# Altium schematic symbol library 27 RESISTORS_THD_AX14_8mm_S.SchLib: 9 symbols
Pins are listed as number, name and electrical type; pins without a type are passive.

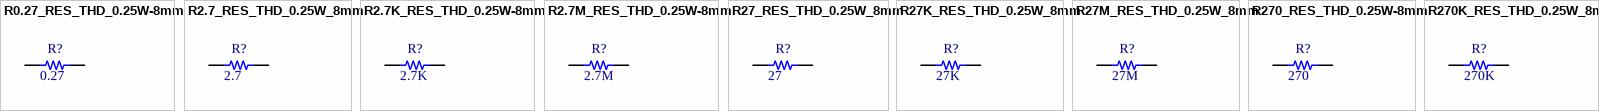
[diagram p0: symbols R0.27_RES_THD_0.25W-8mm to R270K_RES_THD_0.25W_8mm]

## R0.27_RES_THD_0.25W-8mm
designator R?  value 0.27  (hidden comment: *)
RESISTOR_0.27Ohm_THD_0.25W-8mm; Pacakge: THT; Rating: 0.25W; Type: 5%
footprint R0.27_RES_THD_AX14_0.25W (RESISTOR 0.27 Ohm  THD AX14 0.25W Length  8mm)
pins: 1, 2

## R2.7_RES_THD_0.25W_8mm
designator R?  value 2.7  (hidden comment: *)
RESISTOR_2.7Ohm_THD_0.25W-8mm; Pacakge: THT; Rating: 0.25W; Type: 5%
footprint R2.7_RES_THD_AX14_0.25W (RESISTOR 2.7 Ohm  THD AX14 0.25W Length  8mm)
pins: 1, 2

## R2.7K_RES_THD_0.25W-8mm
designator R?  value 2.7K  (hidden comment: *)
RESISTOR_2.7KOhm_THD_0.25W-8mm; Pacakge: THT; Rating: 0.25W; Type: 5%
footprint R2.7K_RES_THD_AX14_0.25W (RESISTOR 2.7K Ohm  THD AX14 0.25W Length  8mm)
pins: 1, 2

## R2.7M_RES_THD_0.25W-8mm
designator R?  value 2.7M  (hidden comment: *)
RESISTOR_2.7MOhm_THD_0.25W-8mm; Pacakge: THT; Rating: 0.25W; Type: 5%
footprint R2.7M_RES_THD_AX14_0.25W (RESISTOR 2.7M Ohm  THD AX14 0.25W Length  8mm)
pins: 1, 2

## R27_RES_THD_0.25W_8mm
designator R?  value 27  (hidden comment: *)
RESISTOR_27Ohm_THD_0.25W-8mm; Pacakge: THT; Rating: 0.25W; Type: 5%; Parameter 1: *
footprint R27_RES_THD_AX14_0.25W (RESISTOR 27 Ohm  THD AX14 0.25W Length  8mm)
pins: 1, 2

## R27K_RES_THD_0.25W_8mm
designator R?  value 27K  (hidden comment: *)
RESISTOR_27KOhm_THD_0.25W-8mm; Pacakge: THT; Rating: 0.25W; Type: 5%
footprint R27K_RES_THD_AX14_0.25W (RESISTOR 27K Ohm  THD AX14 0.25W Length  8mm)
pins: 1, 2

## R27M_RES_THD_0.25W_8mm
designator R?  value 27M  (hidden comment: *)
RESISTOR_27MOhm_THD_0.25W-8mm; Pacakge: THT; Rating: 0.25W; Type: 5%
footprint R27M_RES_THD_AX14_0.25W (RESISTOR 27M Ohm  THD AX14 0.25W Length  8mm)
pins: 1, 2

## R270_RES_THD_0.25W-8mm
designator R?  value 270  (hidden comment: *)
RESISTOR_270Ohm_THD_0.25W-8mm; Pacakge: THT; Rating: 0.25W; Type: 5%; Parameter 1: *
footprint R270_RES_THD_AX14_0.25W (RESISTOR 270 Ohm  THD AX14 0.25W Length  8mm)
pins: 1, 2

## R270K_RES_THD_0.25W_8mm
designator R?  value 270K  (hidden comment: *)
RESISTOR_270KOhm_THD_0.25W-8mm; Pacakge: THT; Rating: 0.25W; Type: 5%
footprint R270K_RES_THD_AX14_0.25W (RESISTOR 270K Ohm  THD AX14 0.25W Length  8mm)
pins: 1, 2